# EAGLE library part LSM330 (library Andrew-Electrical)
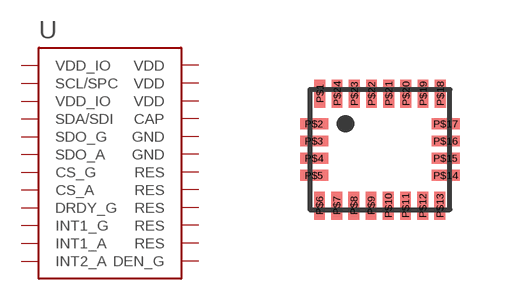
[diagram p3: symbol with the pads of LGA-24L; footprint LGA-24L]

Designator prefix -

## LSM330  [LGA-24L]
P$1  VDD_IO
P$2  SCL/SPC
P$3  VDD_IO
P$4  SDA/SDI
P$5  SDO_G
P$6  SDO_A
P$7  CS_G
P$8  CS_A
P$9  DRDY_G
P$10  INT1_G
P$11  INT1_A
P$12  INT2_A
P$13  DEN_G
P$14  RES
P$15  RES
P$16  RES
P$17  RES
P$18  RES
P$19  GND
P$20  GND
P$21  CAP
P$22  VDD
P$23  VDD
P$24  VDD

## Footprint LGA-24L (pad centres in mm)
smd 0.27 x 0.7: P$1 -1.5,1.4; P$6 -1.51,-1.4; P$7 -1.08,-1.4; P$8 -0.65,-1.4; P$9 -0.22,-1.4; P$10 0.21,-1.4; P$11 0.64,-1.4; P$12 1.07,-1.4; P$13 1.5,-1.4; P$18 1.51,1.4; P$19 1.08,1.4; P$20 0.65,1.4; P$21 0.22,1.4; P$22 -0.21,1.4; P$23 -0.64,1.4; P$24 -1.07,1.4
smd 0.7 x 0.27: P$2 -1.645,0.645; P$3 -1.645,0.215; P$4 -1.645,-0.215; P$5 -1.645,-0.645; P$14 1.645,-0.645; P$15 1.645,-0.215; P$16 1.645,0.215; P$17 1.645,0.645